# Altium schematic symbol library Footprints.SchLib: 2 symbols
Pins are listed as number, name and electrical type; pins without a type are passive.

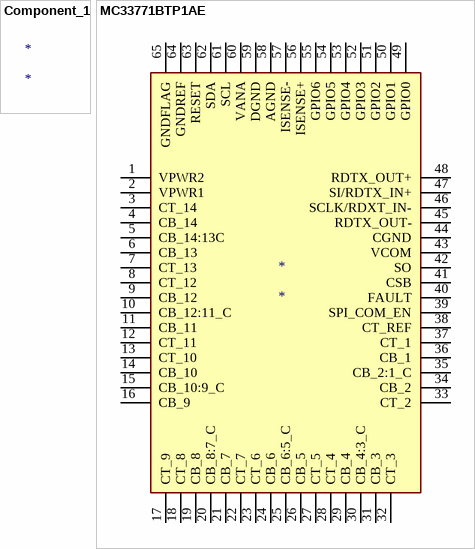
[diagram p0: symbols Component_1 to MC33771BTP1AE]

## Component_1
designator *

## MC33771BTP1AE
designator *
pins: 1 VPWR2, 2 VPWR1, 3 CT_14, 4 CB_14, 5 CB_14:13C, 6 CB_13, 7 CT_13, 8 CT_12, 9 CB_12, 10 CB_12:11_C, 11 CB_11, 12 CT_11, 13 CT_10, 14 CB_10, 15 CB_10:9_C, 16 CB_9, 17 CT_9, 18 CT_8, 19 CB_8, 20 CB_8:7_C, 21 CB_7, 22 CT_7, 23 CT_6, 24 CB_6, 25 CB_6:5_C, 26 CB_5, 27 CT_5, 28 CT_4, 29 CB_4, 30 CB_4:3_C, 31 CB_3, 32 CT_3, 33 CT_2, 34 CB_2, 35 CB_2:1_C, 36 CB_1, 37 CT_1, 38 CT_REF, 39 SPI_COM_EN, 40 FAULT, 41 CSB, 42 SO, 43 VCOM, 44 CGND, 45 RDTX_OUT-, 46 SCLK/RDXT_IN-, 47 SI/RDTX_IN+, 48 RDTX_OUT+, 49 GPIO0, 50 GPIO1, 51 GPIO2, 52 GPIO3, 53 GPIO4, 54 GPIO5, 55 GPIO6, 56 ISENSE+, 57 ISENSE-, 58 AGND, 59 DGND, 60 VANA, 61 SCL, 62 SDA, 63 RESET, 64 GNDREF, 65 GNDFLAG